# Altium schematic symbol library CRCW08050000Z0EAHP.SchLib: 1 symbol
Pins are listed as number, name and electrical type; pins without a type are passive.

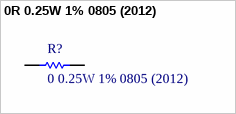
[diagram p0: symbol 0R 0.25W 1% 0805 (2012)]

## 0R 0.25W 1% 0805 (2012)
designator R?, comment 0 0.25W 1% 0805 (2012)
0R 0.25W 1% 0805 (2012 Metric)  SMD; Supplier 1: Mouser; Supplier Part Number 1: 71-CRCW08050000Z0EAH
pins: 1, 2